# EAGLE library part FFC/FPC6 (library vikc-connector)
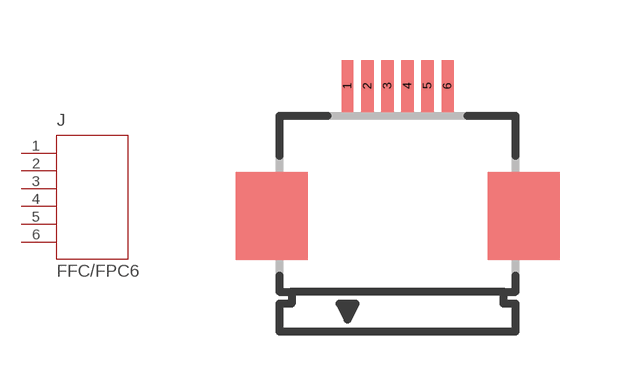
[diagram p1: symbol with the pads of FH12-6S-0.5SH; footprint FH12-6S-0.5SH]

Designator prefix J

## FFC/FPC6  [FH12-6S-0.5SH]
1  P$1
2  P$2
3  P$3
4  P$4
5  P$5
6  P$6

## Footprint FH12-6S-0.5SH (pad centres in mm)
0.5mm Pitch Connectors For FPC/FFC Source: Data sheet <http://www.hirose.co.jp/cataloge_hp/e58605370.pdf>
smd 0.3 x 1.3: 1 -1.25,3.25; 2 -0.75,3.25; 3 -0.25,3.25; 4 0.25,3.25; 5 0.75,3.25; 6 1.25,3.25